# Altium schematic symbol library lcd_displays.SchLib: 3 symbols
Pins are listed as number, name and electrical type; pins without a type are passive.

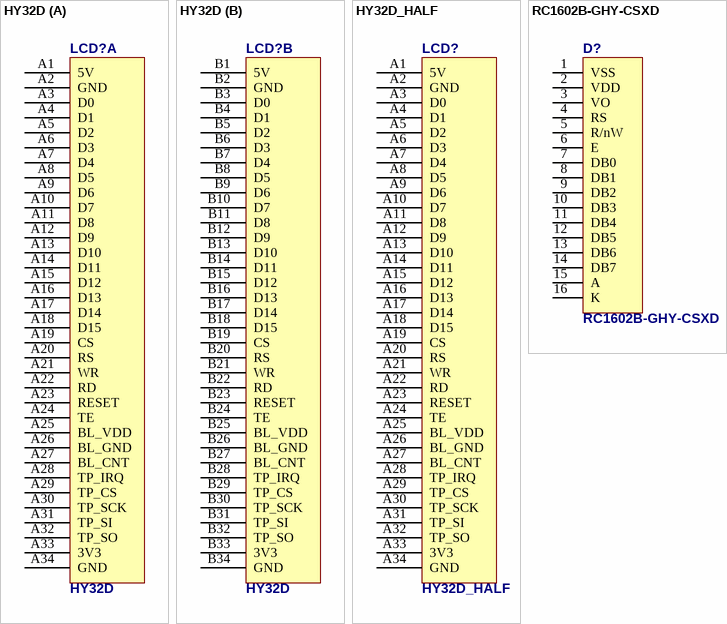
[diagram p0: symbols HY32D to RC1602B-GHY-CSXD]

## HY32D
designator LCD?
footprint HY32D
part A pins: A1 5V, A2 GND, A3 D0, A4 D1, A5 D2, A6 D3, A7 D4, A8 D5, A9 D6, A10 D7, A11 D8, A12 D9, A13 D10, A14 D11, A15 D12, A16 D13, A17 D14, A18 D15, A19 CS, A20 RS, A21 WR, A22 RD, A23 RESET, A24 TE, A25 BL_VDD, A26 BL_GND, A27 BL_CNT, A28 TP_IRQ, A29 TP_CS, A30 TP_SCK, A31 TP_SI, A32 TP_SO, A33 3V3, A34 GND
part B pins: B1 5V, B2 GND, B3 D0, B4 D1, B5 D2, B6 D3, B7 D4, B8 D5, B9 D6, B10 D7, B11 D8, B12 D9, B13 D10, B14 D11, B15 D12, B16 D13, B17 D14, B18 D15, B19 CS, B20 RS, B21 WR, B22 RD, B23 RESET, B24 TE, B25 BL_VDD, B26 BL_GND, B27 BL_CNT, B28 TP_IRQ, B29 TP_CS, B30 TP_SCK, B31 TP_SI, B32 TP_SO, B33 3V3, B34 GND

## HY32D_HALF
designator LCD?
footprint HY32D_HALF
pins: A1 5V, A2 GND, A3 D0, A4 D1, A5 D2, A6 D3, A7 D4, A8 D5, A9 D6, A10 D7, A11 D8, A12 D9, A13 D10, A14 D11, A15 D12, A16 D13, A17 D14, A18 D15, A19 CS, A20 RS, A21 WR, A22 RD, A23 RESET, A24 TE, A25 BL_VDD, A26 BL_GND, A27 BL_CNT, A28 TP_IRQ, A29 TP_CS, A30 TP_SCK, A31 TP_SI, A32 TP_SO, A33 3V3, A34 GND

## RC1602B-GHY-CSXD
designator D?
16x2 LCD Display
footprint RC1602B-GHY-CSXD
pins: 1 VSS (power), 2 VDD (power), 3 VO (power), 4 RS (power), 5 R/nW (power), 6 E (power), 7 DB0 (power), 8 DB1 (power), 9 DB2 (power), 10 DB3 (power), 11 DB4 (power), 12 DB5 (power), 13 DB6 (power), 14 DB7 (power), 15 A (power), 16 K (power)